# Altium integrated library Linear Technology Power Management LED Driver ICs.IntLib: 490 symbols (part 14 of 48)
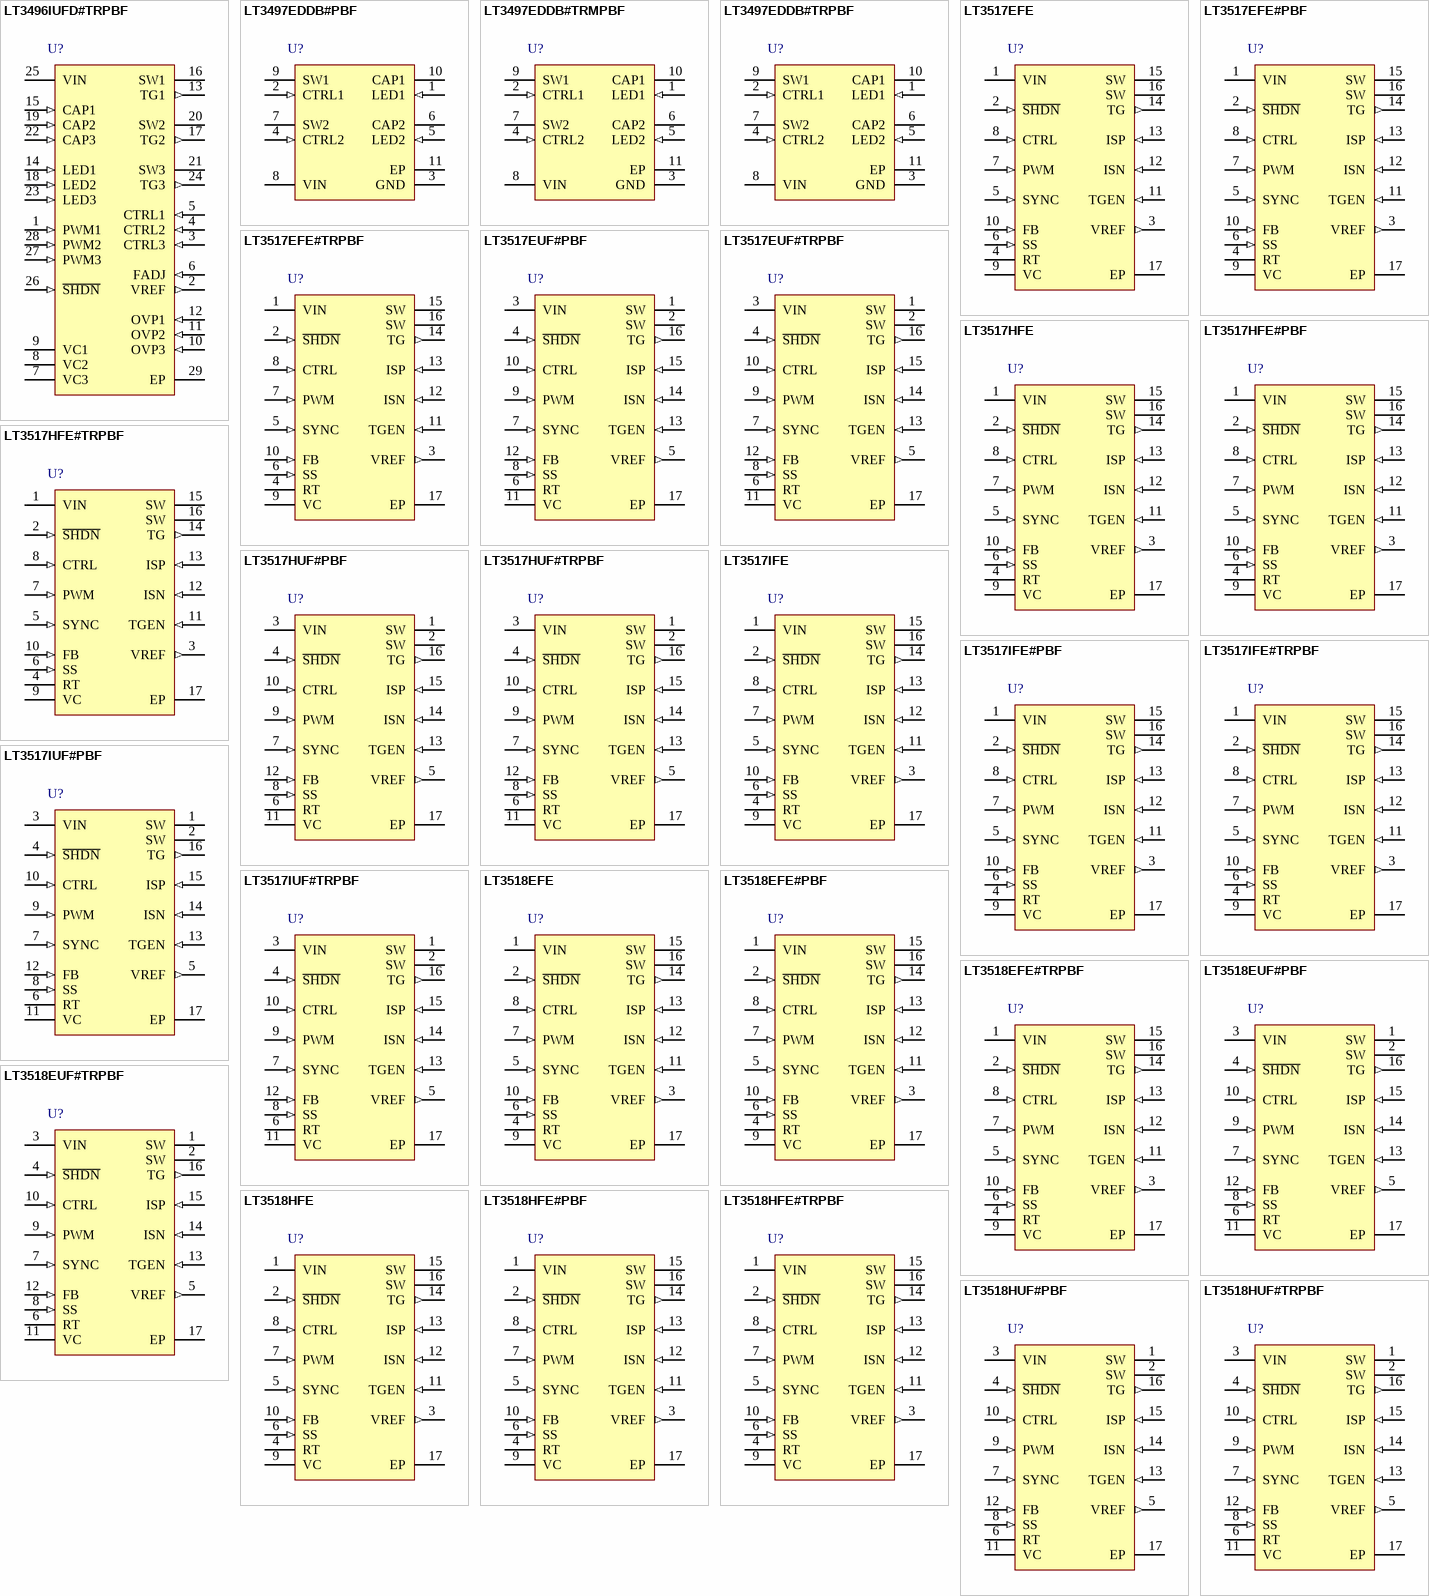
[diagram p33: symbols LT3496IUFD#TRPBF to LT3518HUF#TRPBF]

## LT3517IFE#PBF
designator U?
Full-Featured LED Driver with 1.5 A Switch Current, 3 to 30 V Vin, 40 V Vout MAX, 16-pin SOP (FE-16-EPV-BA), -40 to 125 degC, Pb-Free; Manufacturer: Linear Technology; PartNumber: LT3517IFE#PBF; Topology: Buck, Boost, Buck-Boost, LED Driver; Vin Min(V): 3; DatasheetVersion: Rev. G; PackageVersion: Rev. I, 05/2011; PackageReference: FE-16; PackageDescription: 16-Pin Plastic TSSOP, Body 5 x 4.4 mm, Pitch 0.65 mm; Supplier 1: Digi-Key; Supplier Part Number 1: LT3517IFE#PBF-ND; Supplier 2: Farnell; Supplier Part Number 2: 2294848; Supplier 3: Newark; Supplier Part Number 3: 75M4741; RoHS: TRUE; Mounting Technology: Surface Mount; ComponentLink1Description: Manufacturer URL; ComponentLink1URL: http://www.linear.com/; ComponentLink2Description: Datasheet; ComponentLink2URL: http://cds.linear.com/docs/en/datasheet/3517fg.pdf; ComponentLink3Description: Package Specification; ComponentLink3URL: http://cds.linear.com/docs/en/packaging/05081663_J_FE16(BA).pdf
footprint LT-FE-16-EPV-BA_N (SOP, 16-Leads, Body 5x4.4mm, Pitch 0.65mm, Thermal Pad 2.74x2.74mm, IPC Medium Density)
footprint LT-FE-16-EPV-BA_L (SOP, 16-Leads, Body 5x4.4mm, Pitch 0.65mm, Thermal Pad 2.74x2.74mm, IPC High Density)
footprint LT-FE-16-EPV-BA_M (SOP, 16-Leads, Body 5x4.4mm, Pitch 0.65mm, Thermal Pad 2.74x2.74mm, IPC Low Density)
pins: 1 VIN (power) "Input Supply Pin. Must be locally bypassed.", 2 ~{SHDN} (in) "Shutdown Pin. Tie to 1.5V or higher to enable device or 0.4V or less to disable device.", 3 VREF (out) "Reference Output Pin. This pin can supply up to 100uA.", 4 RT "Switching Frequency Adjustment Pin. Set switching frequency using a resistor to GND (see Typical Performance Characteristics for values). For SYNC function, choose the resistor to program a frequency 20% slower than the SYNC (See Datasheet)", 5 SYNC (in) "Frequency Synchronization Pin. Tie an external clock signal here. RT resistor should be chosen to program a switching frequency 20% slower than SYNC pulse frequency. Synchronization (power switch turn-on) occurs a fixed (See Datasheet)", 6 SS (in) "Soft-Start Pin. Place a soft-start capacitor here. Leave the pin open if not in use.", 7 PWM (in) "Pulse Width Modulated Input Pin. Signal low turns off channel, disables the main switch and makes the TG pin high. Tie the PWM pin to S\H\D\N\ pin if not used. There is an equivalent 50k resistor from PWM pin to ground (See Datasheet)", 8 CTRL (in) "LED Current Adjustment Pin. Sets voltage across sense resistor between ISP and ISN. Connect directly to VREF for full-scale threshold of 100mV, or use signal values between GND and 1V to modulate LED current. Tie the CTRL (See Datasheet)", 9 VC "gm Error Amplifier Output Pin. Stabilize the loop with an RC network or compensating C.", 10 FB (in) "Voltage Loop Feedback Pin. Works as overvoltage protection for LED drivers. If FB is higher than 1V, the main switch is turned off.", 11 TGEN (in) "Top Gate Enable Input Pin. Tie to 1.5V or higher to enable the PMOS driver function. Tie the TGEN pin to ground if TG function is not used. There is an equivalent 40k resistor from TGEN pin to ground internally.", 12 ISN (in) "Current Sense (-) Pin. The inverting input to the current sense amplifier.", 13 ISP (in) "Current Sense (+) Pin. The noninverting input to the current sense amplifier. Also serves as positive rail for TG pin driver.", 14 TG (out) "Top Gate Driver Output. An inverted PWM signal drives series PMOS device between VISP and (VISP - 7V). An internal 7V clamp protects the VISP PMOS gate. Leave TG unconnected if not used.", 15 SW (power) "Switch Pin. Minimize trace at this pin to reduce EMI.", 16 SW (power) "Switch Pin. Minimize trace at this pin to reduce EMI.", 17 EP (power) "Exposed Pad. Solder paddle directly to ground plane."

## LT3517IFE#TRPBF
designator U?
Full-Featured LED Driver with 1.5 A Switch Current, 3 to 30 V Vin, 40 V Vout MAX, 16-pin SOP (FE-16-EPV-BA), -40 to 125 degC, Pb-Free, Tape and Reel; Manufacturer: Linear Technology; PartNumber: LT3517IFE#TRPBF; Topology: Buck, Boost, Buck-Boost, LED Driver; Vin Min(V): 3; DatasheetVersion: Rev. G; PackageVersion: Rev. I, 05/2011; PackageReference: FE-16; PackageDescription: 16-Pin Plastic TSSOP, Body 5 x 4.4 mm, Pitch 0.65 mm; Supplier 1: Digi-Key; Supplier Part Number 1: LT3517IFE#TRPBF-ND; Packing: Tape and Reel; RoHS: TRUE; Mounting Technology: Surface Mount; ComponentLink1Description: Manufacturer URL; ComponentLink1URL: http://www.linear.com/; ComponentLink2Description: Datasheet; ComponentLink2URL: http://cds.linear.com/docs/en/datasheet/3517fg.pdf; ComponentLink3Description: Package Specification; ComponentLink3URL: http://cds.linear.com/docs/en/packaging/05081663_J_FE16(BA).pdf
footprint LT-FE-16-EPV-BA_N (SOP, 16-Leads, Body 5x4.4mm, Pitch 0.65mm, Thermal Pad 2.74x2.74mm, IPC Medium Density)
footprint LT-FE-16-EPV-BA_L (SOP, 16-Leads, Body 5x4.4mm, Pitch 0.65mm, Thermal Pad 2.74x2.74mm, IPC High Density)
footprint LT-FE-16-EPV-BA_M (SOP, 16-Leads, Body 5x4.4mm, Pitch 0.65mm, Thermal Pad 2.74x2.74mm, IPC Low Density)
pins: 1 VIN (power) "Input Supply Pin. Must be locally bypassed.", 2 ~{SHDN} (in) "Shutdown Pin. Tie to 1.5V or higher to enable device or 0.4V or less to disable device.", 3 VREF (out) "Reference Output Pin. This pin can supply up to 100uA.", 4 RT "Switching Frequency Adjustment Pin. Set switching frequency using a resistor to GND (see Typical Performance Characteristics for values). For SYNC function, choose the resistor to program a frequency 20% slower than the SYNC (See Datasheet)", 5 SYNC (in) "Frequency Synchronization Pin. Tie an external clock signal here. RT resistor should be chosen to program a switching frequency 20% slower than SYNC pulse frequency. Synchronization (power switch turn-on) occurs a fixed (See Datasheet)", 6 SS (in) "Soft-Start Pin. Place a soft-start capacitor here. Leave the pin open if not in use.", 7 PWM (in) "Pulse Width Modulated Input Pin. Signal low turns off channel, disables the main switch and makes the TG pin high. Tie the PWM pin to S\H\D\N\ pin if not used. There is an equivalent 50k resistor from PWM pin to ground (See Datasheet)", 8 CTRL (in) "LED Current Adjustment Pin. Sets voltage across sense resistor between ISP and ISN. Connect directly to VREF for full-scale threshold of 100mV, or use signal values between GND and 1V to modulate LED current. Tie the CTRL (See Datasheet)", 9 VC "gm Error Amplifier Output Pin. Stabilize the loop with an RC network or compensating C.", 10 FB (in) "Voltage Loop Feedback Pin. Works as overvoltage protection for LED drivers. If FB is higher than 1V, the main switch is turned off.", 11 TGEN (in) "Top Gate Enable Input Pin. Tie to 1.5V or higher to enable the PMOS driver function. Tie the TGEN pin to ground if TG function is not used. There is an equivalent 40k resistor from TGEN pin to ground internally.", 12 ISN (in) "Current Sense (-) Pin. The inverting input to the current sense amplifier.", 13 ISP (in) "Current Sense (+) Pin. The noninverting input to the current sense amplifier. Also serves as positive rail for TG pin driver.", 14 TG (out) "Top Gate Driver Output. An inverted PWM signal drives series PMOS device between VISP and (VISP - 7V). An internal 7V clamp protects the VISP PMOS gate. Leave TG unconnected if not used.", 15 SW (power) "Switch Pin. Minimize trace at this pin to reduce EMI.", 16 SW (power) "Switch Pin. Minimize trace at this pin to reduce EMI.", 17 EP (power) "Exposed Pad. Solder paddle directly to ground plane."

## LT3517IUF#PBF
designator U?
Full-Featured LED Driver with 1.5 A Switch Current, 3 to 30 V Vin, 40 V Vout MAX, 16-pin QFN (UF-16), -40 to 125 degC, Pb-Free; Manufacturer: Linear Technology; PartNumber: LT3517IUF#PBF; Topology: Buck, Boost, Buck-Boost, LED Driver; Vin Min(V): 3; DatasheetVersion: Rev. G; PackageVersion: Jun-10; PackageReference: UF-16; PackageDescription: 16-Pin Plastic QFN, Body 4 x 4 mm, Pitch 0.65 mm; Supplier 1: Digi-Key; Supplier Part Number 1: LT3517IUF#PBF-ND; Supplier 2: Newark; Supplier Part Number 2: 95M6559; RoHS: TRUE; Mounting Technology: Surface Mount; Code_JEDEC: MO-220; ComponentLink1Description: Manufacturer URL; ComponentLink1URL: http://www.linear.com/; ComponentLink2Description: Datasheet; ComponentLink2URL: http://cds.linear.com/docs/en/datasheet/3517fg.pdf; ComponentLink3Description: Package Specification; ComponentLink3URL: http://cds.linear.com/docs/en/packaging/QFN_16_05-08-1692.pdf
footprint LT-UF-16_N (QFN, 16-Leads, Body 4.1x4.1mm, Pitch 0.65mm, Thermal Pad 2.15x2.15mm, IPC Medium Density)
footprint LT-UF-16_L (QFN, 16-Leads, Body 4.1x4.1mm, Pitch 0.65mm, Thermal Pad 2.15x2.15mm, IPC High Density)
footprint LT-UF-16_M (QFN, 16-Leads, Body 4.1x4.1mm, Pitch 0.65mm, Thermal Pad 2.15x2.15mm, IPC Low Density)
pins: 1 SW (power) "Switch Pin. Minimize trace at this pin to reduce EMI.", 2 SW (power) "Switch Pin. Minimize trace at this pin to reduce EMI.", 3 VIN (power) "Input Supply Pin. Must be locally bypassed.", 4 ~{SHDN} (in) "Shutdown Pin. Tie to 1.5V or higher to enable device or 0.4V or less to disable device.", 5 VREF (out) "Reference Output Pin. This pin can supply up to 100uA.", 6 RT "Switching Frequency Adjustment Pin. Set switching frequency using a resistor to GND (see Typical Performance Characteristics for values). For SYNC function, choose the resistor to program a frequency 20% slower than the SYNC (See Datasheet)", 7 SYNC (in) "Frequency Synchronization Pin. Tie an external clock signal here. RT resistor should be chosen to program a switching frequency 20% slower than SYNC pulse frequency. Synchronization (power switch turn-on) occurs a fixed (See Datasheet)", 8 SS (in) "Soft-Start Pin. Place a soft-start capacitor here. Leave the pin open if not in use.", 9 PWM (in) "Pulse Width Modulated Input Pin. Signal low turns off channel, disables the main switch and makes the TG pin high. Tie the PWM pin to S\H\D\N\ pin if not used. There is an equivalent 50k resistor from PWM pin to ground (See Datasheet)", 10 CTRL (in) "LED Current Adjustment Pin. Sets voltage across sense resistor between ISP and ISN. Connect directly to VREF for full-scale threshold of 100mV, or use signal values between GND and 1V to modulate LED current. Tie the CTRL (See Datasheet)", 11 VC "gm Error Amplifier Output Pin. Stabilize the loop with an RC network or compensating C.", 12 FB (in) "Voltage Loop Feedback Pin. Works as overvoltage protection for LED drivers. If FB is higher than 1V, the main switch is turned off.", 13 TGEN (in) "Top Gate Enable Input Pin. Tie to 1.5V or higher to enable the PMOS driver function. Tie the TGEN pin to ground if TG function is not used. There is an equivalent 40k resistor from TGEN pin to ground internally.", 14 ISN (in) "Current Sense (-) Pin. The inverting input to the current sense amplifier.", 15 ISP (in) "Current Sense (+) Pin. The noninverting input to the current sense amplifier. Also serves as positive rail for TG pin driver.", 16 TG (out) "Top Gate Driver Output. An inverted PWM signal drives series PMOS device between VISP and (VISP - 7V). An internal 7V clamp protects the VISP PMOS gate. Leave TG unconnected if not used.", 17 EP (power) "Exposed Pad. Solder paddle directly to ground plane."

## LT3517IUF#TRPBF
designator U?
Full-Featured LED Driver with 1.5 A Switch Current, 3 to 30 V Vin, 40 V Vout MAX, 16-pin QFN (UF-16), -40 to 125 degC, Pb-Free, Tape and Reel; Manufacturer: Linear Technology; PartNumber: LT3517IUF#TRPBF; Topology: Buck, Boost, Buck-Boost, LED Driver; Vin Min(V): 3; DatasheetVersion: Rev. G; PackageVersion: Jun-10; PackageReference: UF-16; PackageDescription: 16-Pin Plastic QFN, Body 4 x 4 mm, Pitch 0.65 mm; Supplier 1: Digi-Key; Supplier Part Number 1: LT3517IUF#TRPBF-ND; Packing: Tape and Reel; RoHS: TRUE; Mounting Technology: Surface Mount; Code_JEDEC: MO-220; ComponentLink1Description: Manufacturer URL; ComponentLink1URL: http://www.linear.com/; ComponentLink2Description: Datasheet; ComponentLink2URL: http://cds.linear.com/docs/en/datasheet/3517fg.pdf; ComponentLink3Description: Package Specification; ComponentLink3URL: http://cds.linear.com/docs/en/packaging/QFN_16_05-08-1692.pdf
footprint LT-UF-16_N (QFN, 16-Leads, Body 4.1x4.1mm, Pitch 0.65mm, Thermal Pad 2.15x2.15mm, IPC Medium Density)
footprint LT-UF-16_L (QFN, 16-Leads, Body 4.1x4.1mm, Pitch 0.65mm, Thermal Pad 2.15x2.15mm, IPC High Density)
footprint LT-UF-16_M (QFN, 16-Leads, Body 4.1x4.1mm, Pitch 0.65mm, Thermal Pad 2.15x2.15mm, IPC Low Density)
pins: 1 SW (power) "Switch Pin. Minimize trace at this pin to reduce EMI.", 2 SW (power) "Switch Pin. Minimize trace at this pin to reduce EMI.", 3 VIN (power) "Input Supply Pin. Must be locally bypassed.", 4 ~{SHDN} (in) "Shutdown Pin. Tie to 1.5V or higher to enable device or 0.4V or less to disable device.", 5 VREF (out) "Reference Output Pin. This pin can supply up to 100uA.", 6 RT "Switching Frequency Adjustment Pin. Set switching frequency using a resistor to GND (see Typical Performance Characteristics for values). For SYNC function, choose the resistor to program a frequency 20% slower than the SYNC (See Datasheet)", 7 SYNC (in) "Frequency Synchronization Pin. Tie an external clock signal here. RT resistor should be chosen to program a switching frequency 20% slower than SYNC pulse frequency. Synchronization (power switch turn-on) occurs a fixed (See Datasheet)", 8 SS (in) "Soft-Start Pin. Place a soft-start capacitor here. Leave the pin open if not in use.", 9 PWM (in) "Pulse Width Modulated Input Pin. Signal low turns off channel, disables the main switch and makes the TG pin high. Tie the PWM pin to S\H\D\N\ pin if not used. There is an equivalent 50k resistor from PWM pin to ground (See Datasheet)", 10 CTRL (in) "LED Current Adjustment Pin. Sets voltage across sense resistor between ISP and ISN. Connect directly to VREF for full-scale threshold of 100mV, or use signal values between GND and 1V to modulate LED current. Tie the CTRL (See Datasheet)", 11 VC "gm Error Amplifier Output Pin. Stabilize the loop with an RC network or compensating C.", 12 FB (in) "Voltage Loop Feedback Pin. Works as overvoltage protection for LED drivers. If FB is higher than 1V, the main switch is turned off.", 13 TGEN (in) "Top Gate Enable Input Pin. Tie to 1.5V or higher to enable the PMOS driver function. Tie the TGEN pin to ground if TG function is not used. There is an equivalent 40k resistor from TGEN pin to ground internally.", 14 ISN (in) "Current Sense (-) Pin. The inverting input to the current sense amplifier.", 15 ISP (in) "Current Sense (+) Pin. The noninverting input to the current sense amplifier. Also serves as positive rail for TG pin driver.", 16 TG (out) "Top Gate Driver Output. An inverted PWM signal drives series PMOS device between VISP and (VISP - 7V). An internal 7V clamp protects the VISP PMOS gate. Leave TG unconnected if not used.", 17 EP (power) "Exposed Pad. Solder paddle directly to ground plane."

## LT3518EFE
designator U?
Full-Featured LED Driver with 2.3 A Switch Current, 3 to 40 V Vin, 45 V Vout MAX, 16-pin SOP (FE-16-EPV-BA), -40 to 125 degC; Manufacturer: Linear Technology; PartNumber: LT3518EFE; Topology: Buck, Boost, Buck-Boost, LED Driver; Vin Min(V): 3; DatasheetVersion: Rev. E; PackageVersion: Rev. I, 05/2011; PackageReference: FE-16; PackageDescription: 16-Pin Plastic TSSOP, Body 5 x 4.4 mm, Pitch 0.65 mm; RoHS: FALSE; Mounting Technology: Surface Mount; ComponentLink1Description: Manufacturer URL; ComponentLink1URL: http://www.linear.com/; ComponentLink2Description: Datasheet; ComponentLink2URL: http://cds.linear.com/docs/en/datasheet/3518fe.pdf; ComponentLink3Description: Package Specification; ComponentLink3URL: http://cds.linear.com/docs/en/packaging/05081663_J_FE16(BA).pdf
footprint LT-FE-16-EPV-BA_N (SOP, 16-Leads, Body 5x4.4mm, Pitch 0.65mm, Thermal Pad 2.74x2.74mm, IPC Medium Density)
footprint LT-FE-16-EPV-BA_L (SOP, 16-Leads, Body 5x4.4mm, Pitch 0.65mm, Thermal Pad 2.74x2.74mm, IPC High Density)
footprint LT-FE-16-EPV-BA_M (SOP, 16-Leads, Body 5x4.4mm, Pitch 0.65mm, Thermal Pad 2.74x2.74mm, IPC Low Density)
pins: 1 VIN (power) "Input Supply Pin. Must be locally bypassed.", 2 ~{SHDN} (in) "Shutdown Pin. Tie to 1.5V or higher to enable device or 0.4V or less to disable device.", 3 VREF (out) "Reference Output Pin. This pin can supply up to 100uA.", 4 RT "Switching Frequency Adjustment Pin. Set switching frequency using a resistor to GND (see Typical Performance Characteristics for values). For SYNC function, choose the resistor to program a frequency 20% slower than the SYNC (See Datasheet)", 5 SYNC (in) "Frequency Synchronization Pin. Tie an external clock signal here. RT resistor should be chosen to program a switching frequency 20% slower than SYNC pulse frequency. Synchronization (power switch turn-on) occurs a fixed (See Datasheet)", 6 SS (in) "Soft-Start Pin. Place a soft-start capacitor here. Leave the pin open if not in use.", 7 PWM (in) "Pulse Width Modulated Input Pin. Signal low turns off channel, disables the main switch and makes the TG pin high. Tie the PWM pin to S\H\D\N\ pin if not used. There is an equivalent 50k resistor from PWM pin to ground (See Datasheet)", 8 CTRL (in) "LED Current Adjustment Pin. Sets voltage across sense resistor between ISP and ISN. Connect directly to VREF for full-scale threshold of 100mV, or use signal values between GND and 1V to modulate LED current. Tie the CTRL (See Datasheet)", 9 VC "gm Error Amplifier Output Pin. Stabilize the loop with an RC network or compensating C.", 10 FB (in) "Voltage Loop Feedback Pin. Works as overvoltage protection for LED drivers. If FB is higher than 1V, the main switch is turned off.", 11 TGEN (in) "Top Gate Enable Input Pin. Tie to 1.5V or higher to enable the PMOS driver function. Tie the TGEN pin to ground if TG function is not used. There is an equivalent 40k resistor from TGEN pin to ground internally.", 12 ISN (in) "Current Sense (-) Pin. The inverting input to the current sense amplifier.", 13 ISP (in) "Current Sense (+) Pin. The noninverting input to the current sense amplifier. Also serves as positive rail for TG pin driver.", 14 TG (out) "Top Gate Driver Output. An inverted PWM signal drives series PMOS device between VISP and (VISP - 7V). An internal 7V clamp protects the VISP PMOS gate. Leave TG unconnected if not used.", 15 SW (power) "Switch Pin. Minimize trace at this pin to reduce EMI.", 16 SW (power) "Switch Pin. Minimize trace at this pin to reduce EMI.", 17 EP (power) "Exposed Pad. Solder paddle directly to ground plane."

## LT3518EFE#PBF
designator U?
Full-Featured LED Driver with 2.3 A Switch Current, 3 to 40 V Vin, 45 V Vout MAX, 16-pin SOP (FE-16-EPV-BA), -40 to 125 degC, Pb-Free; Manufacturer: Linear Technology; PartNumber: LT3518EFE#PBF; Topology: Buck, Boost, Buck-Boost, LED Driver; Vin Min(V): 3; DatasheetVersion: Rev. E; PackageVersion: Rev. I, 05/2011; PackageReference: FE-16; PackageDescription: 16-Pin Plastic TSSOP, Body 5 x 4.4 mm, Pitch 0.65 mm; Supplier 1: Digi-Key; Supplier Part Number 1: LT3518EFE#PBF-ND; Supplier 2: Farnell; Supplier Part Number 2: 1647748; Supplier 3: Newark; Supplier Part Number 3: 75M4744; RoHS: TRUE; Mounting Technology: Surface Mount; ComponentLink1Description: Manufacturer URL; ComponentLink1URL: http://www.linear.com/; ComponentLink2Description: Datasheet; ComponentLink2URL: http://cds.linear.com/docs/en/datasheet/3518fe.pdf; ComponentLink3Description: Package Specification; ComponentLink3URL: http://cds.linear.com/docs/en/packaging/05081663_J_FE16(BA).pdf
footprint LT-FE-16-EPV-BA_N (SOP, 16-Leads, Body 5x4.4mm, Pitch 0.65mm, Thermal Pad 2.74x2.74mm, IPC Medium Density)
footprint LT-FE-16-EPV-BA_L (SOP, 16-Leads, Body 5x4.4mm, Pitch 0.65mm, Thermal Pad 2.74x2.74mm, IPC High Density)
footprint LT-FE-16-EPV-BA_M (SOP, 16-Leads, Body 5x4.4mm, Pitch 0.65mm, Thermal Pad 2.74x2.74mm, IPC Low Density)
pins: 1 VIN (power) "Input Supply Pin. Must be locally bypassed.", 2 ~{SHDN} (in) "Shutdown Pin. Tie to 1.5V or higher to enable device or 0.4V or less to disable device.", 3 VREF (out) "Reference Output Pin. This pin can supply up to 100uA.", 4 RT "Switching Frequency Adjustment Pin. Set switching frequency using a resistor to GND (see Typical Performance Characteristics for values). For SYNC function, choose the resistor to program a frequency 20% slower than the SYNC (See Datasheet)", 5 SYNC (in) "Frequency Synchronization Pin. Tie an external clock signal here. RT resistor should be chosen to program a switching frequency 20% slower than SYNC pulse frequency. Synchronization (power switch turn-on) occurs a fixed (See Datasheet)", 6 SS (in) "Soft-Start Pin. Place a soft-start capacitor here. Leave the pin open if not in use.", 7 PWM (in) "Pulse Width Modulated Input Pin. Signal low turns off channel, disables the main switch and makes the TG pin high. Tie the PWM pin to S\H\D\N\ pin if not used. There is an equivalent 50k resistor from PWM pin to ground (See Datasheet)", 8 CTRL (in) "LED Current Adjustment Pin. Sets voltage across sense resistor between ISP and ISN. Connect directly to VREF for full-scale threshold of 100mV, or use signal values between GND and 1V to modulate LED current. Tie the CTRL (See Datasheet)", 9 VC "gm Error Amplifier Output Pin. Stabilize the loop with an RC network or compensating C.", 10 FB (in) "Voltage Loop Feedback Pin. Works as overvoltage protection for LED drivers. If FB is higher than 1V, the main switch is turned off.", 11 TGEN (in) "Top Gate Enable Input Pin. Tie to 1.5V or higher to enable the PMOS driver function. Tie the TGEN pin to ground if TG function is not used. There is an equivalent 40k resistor from TGEN pin to ground internally.", 12 ISN (in) "Current Sense (-) Pin. The inverting input to the current sense amplifier.", 13 ISP (in) "Current Sense (+) Pin. The noninverting input to the current sense amplifier. Also serves as positive rail for TG pin driver.", 14 TG (out) "Top Gate Driver Output. An inverted PWM signal drives series PMOS device between VISP and (VISP - 7V). An internal 7V clamp protects the VISP PMOS gate. Leave TG unconnected if not used.", 15 SW (power) "Switch Pin. Minimize trace at this pin to reduce EMI.", 16 SW (power) "Switch Pin. Minimize trace at this pin to reduce EMI.", 17 EP (power) "Exposed Pad. Solder paddle directly to ground plane."

## LT3518EFE#TRPBF
designator U?
Full-Featured LED Driver with 2.3 A Switch Current, 3 to 40 V Vin, 45 V Vout MAX, 16-pin SOP (FE-16-EPV-BA), -40 to 125 degC, Pb-Free, Tape and Reel; Manufacturer: Linear Technology; PartNumber: LT3518EFE#TRPBF; Topology: Buck, Boost, Buck-Boost, LED Driver; Vin Min(V): 3; DatasheetVersion: Rev. E; PackageVersion: Rev. I, 05/2011; PackageReference: FE-16; PackageDescription: 16-Pin Plastic TSSOP, Body 5 x 4.4 mm, Pitch 0.65 mm; Supplier 1: Digi-Key; Supplier Part Number 1: LT3518EFE#TRPBF-ND; Packing: Tape and Reel; RoHS: TRUE; Mounting Technology: Surface Mount; ComponentLink1Description: Manufacturer URL; ComponentLink1URL: http://www.linear.com/; ComponentLink2Description: Datasheet; ComponentLink2URL: http://cds.linear.com/docs/en/datasheet/3518fe.pdf; ComponentLink3Description: Package Specification; ComponentLink3URL: http://cds.linear.com/docs/en/packaging/05081663_J_FE16(BA).pdf
footprint LT-FE-16-EPV-BA_N (SOP, 16-Leads, Body 5x4.4mm, Pitch 0.65mm, Thermal Pad 2.74x2.74mm, IPC Medium Density)
footprint LT-FE-16-EPV-BA_L (SOP, 16-Leads, Body 5x4.4mm, Pitch 0.65mm, Thermal Pad 2.74x2.74mm, IPC High Density)
footprint LT-FE-16-EPV-BA_M (SOP, 16-Leads, Body 5x4.4mm, Pitch 0.65mm, Thermal Pad 2.74x2.74mm, IPC Low Density)
pins: 1 VIN (power) "Input Supply Pin. Must be locally bypassed.", 2 ~{SHDN} (in) "Shutdown Pin. Tie to 1.5V or higher to enable device or 0.4V or less to disable device.", 3 VREF (out) "Reference Output Pin. This pin can supply up to 100uA.", 4 RT "Switching Frequency Adjustment Pin. Set switching frequency using a resistor to GND (see Typical Performance Characteristics for values). For SYNC function, choose the resistor to program a frequency 20% slower than the SYNC (See Datasheet)", 5 SYNC (in) "Frequency Synchronization Pin. Tie an external clock signal here. RT resistor should be chosen to program a switching frequency 20% slower than SYNC pulse frequency. Synchronization (power switch turn-on) occurs a fixed (See Datasheet)", 6 SS (in) "Soft-Start Pin. Place a soft-start capacitor here. Leave the pin open if not in use.", 7 PWM (in) "Pulse Width Modulated Input Pin. Signal low turns off channel, disables the main switch and makes the TG pin high. Tie the PWM pin to S\H\D\N\ pin if not used. There is an equivalent 50k resistor from PWM pin to ground (See Datasheet)", 8 CTRL (in) "LED Current Adjustment Pin. Sets voltage across sense resistor between ISP and ISN. Connect directly to VREF for full-scale threshold of 100mV, or use signal values between GND and 1V to modulate LED current. Tie the CTRL (See Datasheet)", 9 VC "gm Error Amplifier Output Pin. Stabilize the loop with an RC network or compensating C.", 10 FB (in) "Voltage Loop Feedback Pin. Works as overvoltage protection for LED drivers. If FB is higher than 1V, the main switch is turned off.", 11 TGEN (in) "Top Gate Enable Input Pin. Tie to 1.5V or higher to enable the PMOS driver function. Tie the TGEN pin to ground if TG function is not used. There is an equivalent 40k resistor from TGEN pin to ground internally.", 12 ISN (in) "Current Sense (-) Pin. The inverting input to the current sense amplifier.", 13 ISP (in) "Current Sense (+) Pin. The noninverting input to the current sense amplifier. Also serves as positive rail for TG pin driver.", 14 TG (out) "Top Gate Driver Output. An inverted PWM signal drives series PMOS device between VISP and (VISP - 7V). An internal 7V clamp protects the VISP PMOS gate. Leave TG unconnected if not used.", 15 SW (power) "Switch Pin. Minimize trace at this pin to reduce EMI.", 16 SW (power) "Switch Pin. Minimize trace at this pin to reduce EMI.", 17 EP (power) "Exposed Pad. Solder paddle directly to ground plane."

## LT3518EUF#PBF
designator U?
Full-Featured LED Driver with 2.3 A Switch Current, 3 to 40 V Vin, 45 V Vout MAX, 16-pin QFN (UF-16), -40 to 125 degC, Pb-Free; Manufacturer: Linear Technology; PartNumber: LT3518EUF#PBF; Topology: Buck, Boost, Buck-Boost, LED Driver; Vin Min(V): 3; DatasheetVersion: Rev. E; PackageVersion: Jun-10; PackageReference: UF-16; PackageDescription: 16-Pin Plastic QFN, Body 4 x 4 mm, Pitch 0.65 mm; Supplier 1: Digi-Key; Supplier Part Number 1: LT3518EUF#PBF-ND; Supplier 2: Farnell; Supplier Part Number 2: 1432694; Supplier 3: Newark; Supplier Part Number 3: 57M8511; RoHS: TRUE; Mounting Technology: Surface Mount; Code_JEDEC: MO-220; ComponentLink1Description: Manufacturer URL; ComponentLink1URL: http://www.linear.com/; ComponentLink2Description: Datasheet; ComponentLink2URL: http://cds.linear.com/docs/en/datasheet/3518fe.pdf; ComponentLink3Description: Package Specification; ComponentLink3URL: http://cds.linear.com/docs/en/packaging/QFN_16_05-08-1692.pdf
footprint LT-UF-16_N (QFN, 16-Leads, Body 4.1x4.1mm, Pitch 0.65mm, Thermal Pad 2.15x2.15mm, IPC Medium Density)
footprint LT-UF-16_L (QFN, 16-Leads, Body 4.1x4.1mm, Pitch 0.65mm, Thermal Pad 2.15x2.15mm, IPC High Density)
footprint LT-UF-16_M (QFN, 16-Leads, Body 4.1x4.1mm, Pitch 0.65mm, Thermal Pad 2.15x2.15mm, IPC Low Density)
pins: 1 SW (power) "Switch Pin. Minimize trace at this pin to reduce EMI.", 2 SW (power) "Switch Pin. Minimize trace at this pin to reduce EMI.", 3 VIN (power) "Input Supply Pin. Must be locally bypassed.", 4 ~{SHDN} (in) "Shutdown Pin. Tie to 1.5V or higher to enable device or 0.4V or less to disable device.", 5 VREF (out) "Reference Output Pin. This pin can supply up to 100uA.", 6 RT "Switching Frequency Adjustment Pin. Set switching frequency using a resistor to GND (see Typical Performance Characteristics for values). For SYNC function, choose the resistor to program a frequency 20% slower than the SYNC (See Datasheet)", 7 SYNC (in) "Frequency Synchronization Pin. Tie an external clock signal here. RT resistor should be chosen to program a switching frequency 20% slower than SYNC pulse frequency. Synchronization (power switch turn-on) occurs a fixed (See Datasheet)", 8 SS (in) "Soft-Start Pin. Place a soft-start capacitor here. Leave the pin open if not in use.", 9 PWM (in) "Pulse Width Modulated Input Pin. Signal low turns off channel, disables the main switch and makes the TG pin high. Tie the PWM pin to S\H\D\N\ pin if not used. There is an equivalent 50k resistor from PWM pin to ground (See Datasheet)", 10 CTRL (in) "LED Current Adjustment Pin. Sets voltage across sense resistor between ISP and ISN. Connect directly to VREF for full-scale threshold of 100mV, or use signal values between GND and 1V to modulate LED current. Tie the CTRL (See Datasheet)", 11 VC "gm Error Amplifier Output Pin. Stabilize the loop with an RC network or compensating C.", 12 FB (in) "Voltage Loop Feedback Pin. Works as overvoltage protection for LED drivers. If FB is higher than 1V, the main switch is turned off.", 13 TGEN (in) "Top Gate Enable Input Pin. Tie to 1.5V or higher to enable the PMOS driver function. Tie the TGEN pin to ground if TG function is not used. There is an equivalent 40k resistor from TGEN pin to ground internally.", 14 ISN (in) "Current Sense (-) Pin. The inverting input to the current sense amplifier.", 15 ISP (in) "Current Sense (+) Pin. The noninverting input to the current sense amplifier. Also serves as positive rail for TG pin driver.", 16 TG (out) "Top Gate Driver Output. An inverted PWM signal drives series PMOS device between VISP and (VISP - 7V). An internal 7V clamp protects the VISP PMOS gate. Leave TG unconnected if not used.", 17 EP (power) "Exposed Pad. Solder paddle directly to ground plane."

## LT3518EUF#TRPBF
designator U?
Full-Featured LED Driver with 2.3 A Switch Current, 3 to 40 V Vin, 45 V Vout MAX, 16-pin QFN (UF-16), -40 to 125 degC, Pb-Free, Tape and Reel; Manufacturer: Linear Technology; PartNumber: LT3518EUF#TRPBF; Topology: Buck, Boost, Buck-Boost, LED Driver; Vin Min(V): 3; DatasheetVersion: Rev. E; PackageVersion: Jun-10; PackageReference: UF-16; PackageDescription: 16-Pin Plastic QFN, Body 4 x 4 mm, Pitch 0.65 mm; Supplier 1: Digi-Key; Supplier Part Number 1: LT3518EUF#TRPBF-ND; Packing: Tape and Reel; RoHS: TRUE; Mounting Technology: Surface Mount; Code_JEDEC: MO-220; ComponentLink1Description: Manufacturer URL; ComponentLink1URL: http://www.linear.com/; ComponentLink2Description: Datasheet; ComponentLink2URL: http://cds.linear.com/docs/en/datasheet/3518fe.pdf; ComponentLink3Description: Package Specification; ComponentLink3URL: http://cds.linear.com/docs/en/packaging/QFN_16_05-08-1692.pdf
footprint LT-UF-16_N (QFN, 16-Leads, Body 4.1x4.1mm, Pitch 0.65mm, Thermal Pad 2.15x2.15mm, IPC Medium Density)
footprint LT-UF-16_L (QFN, 16-Leads, Body 4.1x4.1mm, Pitch 0.65mm, Thermal Pad 2.15x2.15mm, IPC High Density)
footprint LT-UF-16_M (QFN, 16-Leads, Body 4.1x4.1mm, Pitch 0.65mm, Thermal Pad 2.15x2.15mm, IPC Low Density)
pins: 1 SW (power) "Switch Pin. Minimize trace at this pin to reduce EMI.", 2 SW (power) "Switch Pin. Minimize trace at this pin to reduce EMI.", 3 VIN (power) "Input Supply Pin. Must be locally bypassed.", 4 ~{SHDN} (in) "Shutdown Pin. Tie to 1.5V or higher to enable device or 0.4V or less to disable device.", 5 VREF (out) "Reference Output Pin. This pin can supply up to 100uA.", 6 RT "Switching Frequency Adjustment Pin. Set switching frequency using a resistor to GND (see Typical Performance Characteristics for values). For SYNC function, choose the resistor to program a frequency 20% slower than the SYNC (See Datasheet)", 7 SYNC (in) "Frequency Synchronization Pin. Tie an external clock signal here. RT resistor should be chosen to program a switching frequency 20% slower than SYNC pulse frequency. Synchronization (power switch turn-on) occurs a fixed (See Datasheet)", 8 SS (in) "Soft-Start Pin. Place a soft-start capacitor here. Leave the pin open if not in use.", 9 PWM (in) "Pulse Width Modulated Input Pin. Signal low turns off channel, disables the main switch and makes the TG pin high. Tie the PWM pin to S\H\D\N\ pin if not used. There is an equivalent 50k resistor from PWM pin to ground (See Datasheet)", 10 CTRL (in) "LED Current Adjustment Pin. Sets voltage across sense resistor between ISP and ISN. Connect directly to VREF for full-scale threshold of 100mV, or use signal values between GND and 1V to modulate LED current. Tie the CTRL (See Datasheet)", 11 VC "gm Error Amplifier Output Pin. Stabilize the loop with an RC network or compensating C.", 12 FB (in) "Voltage Loop Feedback Pin. Works as overvoltage protection for LED drivers. If FB is higher than 1V, the main switch is turned off.", 13 TGEN (in) "Top Gate Enable Input Pin. Tie to 1.5V or higher to enable the PMOS driver function. Tie the TGEN pin to ground if TG function is not used. There is an equivalent 40k resistor from TGEN pin to ground internally.", 14 ISN (in) "Current Sense (-) Pin. The inverting input to the current sense amplifier.", 15 ISP (in) "Current Sense (+) Pin. The noninverting input to the current sense amplifier. Also serves as positive rail for TG pin driver.", 16 TG (out) "Top Gate Driver Output. An inverted PWM signal drives series PMOS device between VISP and (VISP - 7V). An internal 7V clamp protects the VISP PMOS gate. Leave TG unconnected if not used.", 17 EP (power) "Exposed Pad. Solder paddle directly to ground plane."

## LT3518HFE
designator U?
Full-Featured LED Driver with 2.3 A Switch Current, 3 to 40 V Vin, 45 V Vout MAX, 16-pin SOP (FE-16-EPV-BA), -40 to 150 degC; Manufacturer: Linear Technology; PartNumber: LT3518HFE; Topology: Buck, Boost, Buck-Boost, LED Driver; Vin Min(V): 3; DatasheetVersion: Rev. E; PackageVersion: Rev. I, 05/2011; PackageReference: FE-16; PackageDescription: 16-Pin Plastic TSSOP, Body 5 x 4.4 mm, Pitch 0.65 mm; RoHS: FALSE; Mounting Technology: Surface Mount; ComponentLink1Description: Manufacturer URL; ComponentLink1URL: http://www.linear.com/; ComponentLink2Description: Datasheet; ComponentLink2URL: http://cds.linear.com/docs/en/datasheet/3518fe.pdf; ComponentLink3Description: Package Specification; ComponentLink3URL: http://cds.linear.com/docs/en/packaging/05081663_J_FE16(BA).pdf
footprint LT-FE-16-EPV-BA_N (SOP, 16-Leads, Body 5x4.4mm, Pitch 0.65mm, Thermal Pad 2.74x2.74mm, IPC Medium Density)
footprint LT-FE-16-EPV-BA_L (SOP, 16-Leads, Body 5x4.4mm, Pitch 0.65mm, Thermal Pad 2.74x2.74mm, IPC High Density)
footprint LT-FE-16-EPV-BA_M (SOP, 16-Leads, Body 5x4.4mm, Pitch 0.65mm, Thermal Pad 2.74x2.74mm, IPC Low Density)
pins: 1 VIN (power) "Input Supply Pin. Must be locally bypassed.", 2 ~{SHDN} (in) "Shutdown Pin. Tie to 1.5V or higher to enable device or 0.4V or less to disable device.", 3 VREF (out) "Reference Output Pin. This pin can supply up to 100uA.", 4 RT "Switching Frequency Adjustment Pin. Set switching frequency using a resistor to GND (see Typical Performance Characteristics for values). For SYNC function, choose the resistor to program a frequency 20% slower than the SYNC (See Datasheet)", 5 SYNC (in) "Frequency Synchronization Pin. Tie an external clock signal here. RT resistor should be chosen to program a switching frequency 20% slower than SYNC pulse frequency. Synchronization (power switch turn-on) occurs a fixed (See Datasheet)", 6 SS (in) "Soft-Start Pin. Place a soft-start capacitor here. Leave the pin open if not in use.", 7 PWM (in) "Pulse Width Modulated Input Pin. Signal low turns off channel, disables the main switch and makes the TG pin high. Tie the PWM pin to S\H\D\N\ pin if not used. There is an equivalent 50k resistor from PWM pin to ground (See Datasheet)", 8 CTRL (in) "LED Current Adjustment Pin. Sets voltage across sense resistor between ISP and ISN. Connect directly to VREF for full-scale threshold of 100mV, or use signal values between GND and 1V to modulate LED current. Tie the CTRL (See Datasheet)", 9 VC "gm Error Amplifier Output Pin. Stabilize the loop with an RC network or compensating C.", 10 FB (in) "Voltage Loop Feedback Pin. Works as overvoltage protection for LED drivers. If FB is higher than 1V, the main switch is turned off.", 11 TGEN (in) "Top Gate Enable Input Pin. Tie to 1.5V or higher to enable the PMOS driver function. Tie the TGEN pin to ground if TG function is not used. There is an equivalent 40k resistor from TGEN pin to ground internally.", 12 ISN (in) "Current Sense (-) Pin. The inverting input to the current sense amplifier.", 13 ISP (in) "Current Sense (+) Pin. The noninverting input to the current sense amplifier. Also serves as positive rail for TG pin driver.", 14 TG (out) "Top Gate Driver Output. An inverted PWM signal drives series PMOS device between VISP and (VISP - 7V). An internal 7V clamp protects the VISP PMOS gate. Leave TG unconnected if not used.", 15 SW (power) "Switch Pin. Minimize trace at this pin to reduce EMI.", 16 SW (power) "Switch Pin. Minimize trace at this pin to reduce EMI.", 17 EP (power) "Exposed Pad. Solder paddle directly to ground plane."

## LT3518HFE#PBF
designator U?
Full-Featured LED Driver with 2.3 A Switch Current, 3 to 40 V Vin, 45 V Vout MAX, 16-pin SOP (FE-16-EPV-BA), -40 to 150 degC, Pb-Free; Manufacturer: Linear Technology; PartNumber: LT3518HFE#PBF; Topology: Buck, Boost, Buck-Boost, LED Driver; Vin Min(V): 3; DatasheetVersion: Rev. E; PackageVersion: Rev. I, 05/2011; PackageReference: FE-16; PackageDescription: 16-Pin Plastic TSSOP, Body 5 x 4.4 mm, Pitch 0.65 mm; Supplier 1: Digi-Key; Supplier Part Number 1: LT3518HFE#PBF-ND; RoHS: TRUE; Mounting Technology: Surface Mount; ComponentLink1Description: Manufacturer URL; ComponentLink1URL: http://www.linear.com/; ComponentLink2Description: Datasheet; ComponentLink2URL: http://cds.linear.com/docs/en/datasheet/3518fe.pdf; ComponentLink3Description: Package Specification; ComponentLink3URL: http://cds.linear.com/docs/en/packaging/05081663_J_FE16(BA).pdf
footprint LT-FE-16-EPV-BA_N (SOP, 16-Leads, Body 5x4.4mm, Pitch 0.65mm, Thermal Pad 2.74x2.74mm, IPC Medium Density)
footprint LT-FE-16-EPV-BA_L (SOP, 16-Leads, Body 5x4.4mm, Pitch 0.65mm, Thermal Pad 2.74x2.74mm, IPC High Density)
footprint LT-FE-16-EPV-BA_M (SOP, 16-Leads, Body 5x4.4mm, Pitch 0.65mm, Thermal Pad 2.74x2.74mm, IPC Low Density)
pins: 1 VIN (power) "Input Supply Pin. Must be locally bypassed.", 2 ~{SHDN} (in) "Shutdown Pin. Tie to 1.5V or higher to enable device or 0.4V or less to disable device.", 3 VREF (out) "Reference Output Pin. This pin can supply up to 100uA.", 4 RT "Switching Frequency Adjustment Pin. Set switching frequency using a resistor to GND (see Typical Performance Characteristics for values). For SYNC function, choose the resistor to program a frequency 20% slower than the SYNC (See Datasheet)", 5 SYNC (in) "Frequency Synchronization Pin. Tie an external clock signal here. RT resistor should be chosen to program a switching frequency 20% slower than SYNC pulse frequency. Synchronization (power switch turn-on) occurs a fixed (See Datasheet)", 6 SS (in) "Soft-Start Pin. Place a soft-start capacitor here. Leave the pin open if not in use.", 7 PWM (in) "Pulse Width Modulated Input Pin. Signal low turns off channel, disables the main switch and makes the TG pin high. Tie the PWM pin to S\H\D\N\ pin if not used. There is an equivalent 50k resistor from PWM pin to ground (See Datasheet)", 8 CTRL (in) "LED Current Adjustment Pin. Sets voltage across sense resistor between ISP and ISN. Connect directly to VREF for full-scale threshold of 100mV, or use signal values between GND and 1V to modulate LED current. Tie the CTRL (See Datasheet)", 9 VC "gm Error Amplifier Output Pin. Stabilize the loop with an RC network or compensating C.", 10 FB (in) "Voltage Loop Feedback Pin. Works as overvoltage protection for LED drivers. If FB is higher than 1V, the main switch is turned off.", 11 TGEN (in) "Top Gate Enable Input Pin. Tie to 1.5V or higher to enable the PMOS driver function. Tie the TGEN pin to ground if TG function is not used. There is an equivalent 40k resistor from TGEN pin to ground internally.", 12 ISN (in) "Current Sense (-) Pin. The inverting input to the current sense amplifier.", 13 ISP (in) "Current Sense (+) Pin. The noninverting input to the current sense amplifier. Also serves as positive rail for TG pin driver.", 14 TG (out) "Top Gate Driver Output. An inverted PWM signal drives series PMOS device between VISP and (VISP - 7V). An internal 7V clamp protects the VISP PMOS gate. Leave TG unconnected if not used.", 15 SW (power) "Switch Pin. Minimize trace at this pin to reduce EMI.", 16 SW (power) "Switch Pin. Minimize trace at this pin to reduce EMI.", 17 EP (power) "Exposed Pad. Solder paddle directly to ground plane."

## LT3518HFE#TRPBF
designator U?
Full-Featured LED Driver with 2.3 A Switch Current, 3 to 40 V Vin, 45 V Vout MAX, 16-pin SOP (FE-16-EPV-BA), -40 to 150 degC, Pb-Free, Tape and Reel; Manufacturer: Linear Technology; PartNumber: LT3518HFE#TRPBF; Topology: Buck, Boost, Buck-Boost, LED Driver; Vin Min(V): 3; DatasheetVersion: Rev. E; PackageVersion: Rev. I, 05/2011; PackageReference: FE-16; PackageDescription: 16-Pin Plastic TSSOP, Body 5 x 4.4 mm, Pitch 0.65 mm; Supplier 1: Digi-Key; Supplier Part Number 1: LT3518HFE#TRPBF-ND; Packing: Tape and Reel; RoHS: TRUE; Mounting Technology: Surface Mount; ComponentLink1Description: Manufacturer URL; ComponentLink1URL: http://www.linear.com/; ComponentLink2Description: Datasheet; ComponentLink2URL: http://cds.linear.com/docs/en/datasheet/3518fe.pdf; ComponentLink3Description: Package Specification; ComponentLink3URL: http://cds.linear.com/docs/en/packaging/05081663_J_FE16(BA).pdf
footprint LT-FE-16-EPV-BA_N (SOP, 16-Leads, Body 5x4.4mm, Pitch 0.65mm, Thermal Pad 2.74x2.74mm, IPC Medium Density)
footprint LT-FE-16-EPV-BA_L (SOP, 16-Leads, Body 5x4.4mm, Pitch 0.65mm, Thermal Pad 2.74x2.74mm, IPC High Density)
footprint LT-FE-16-EPV-BA_M (SOP, 16-Leads, Body 5x4.4mm, Pitch 0.65mm, Thermal Pad 2.74x2.74mm, IPC Low Density)
pins: 1 VIN (power) "Input Supply Pin. Must be locally bypassed.", 2 ~{SHDN} (in) "Shutdown Pin. Tie to 1.5V or higher to enable device or 0.4V or less to disable device.", 3 VREF (out) "Reference Output Pin. This pin can supply up to 100uA.", 4 RT "Switching Frequency Adjustment Pin. Set switching frequency using a resistor to GND (see Typical Performance Characteristics for values). For SYNC function, choose the resistor to program a frequency 20% slower than the SYNC (See Datasheet)", 5 SYNC (in) "Frequency Synchronization Pin. Tie an external clock signal here. RT resistor should be chosen to program a switching frequency 20% slower than SYNC pulse frequency. Synchronization (power switch turn-on) occurs a fixed (See Datasheet)", 6 SS (in) "Soft-Start Pin. Place a soft-start capacitor here. Leave the pin open if not in use.", 7 PWM (in) "Pulse Width Modulated Input Pin. Signal low turns off channel, disables the main switch and makes the TG pin high. Tie the PWM pin to S\H\D\N\ pin if not used. There is an equivalent 50k resistor from PWM pin to ground (See Datasheet)", 8 CTRL (in) "LED Current Adjustment Pin. Sets voltage across sense resistor between ISP and ISN. Connect directly to VREF for full-scale threshold of 100mV, or use signal values between GND and 1V to modulate LED current. Tie the CTRL (See Datasheet)", 9 VC "gm Error Amplifier Output Pin. Stabilize the loop with an RC network or compensating C.", 10 FB (in) "Voltage Loop Feedback Pin. Works as overvoltage protection for LED drivers. If FB is higher than 1V, the main switch is turned off.", 11 TGEN (in) "Top Gate Enable Input Pin. Tie to 1.5V or higher to enable the PMOS driver function. Tie the TGEN pin to ground if TG function is not used. There is an equivalent 40k resistor from TGEN pin to ground internally.", 12 ISN (in) "Current Sense (-) Pin. The inverting input to the current sense amplifier.", 13 ISP (in) "Current Sense (+) Pin. The noninverting input to the current sense amplifier. Also serves as positive rail for TG pin driver.", 14 TG (out) "Top Gate Driver Output. An inverted PWM signal drives series PMOS device between VISP and (VISP - 7V). An internal 7V clamp protects the VISP PMOS gate. Leave TG unconnected if not used.", 15 SW (power) "Switch Pin. Minimize trace at this pin to reduce EMI.", 16 SW (power) "Switch Pin. Minimize trace at this pin to reduce EMI.", 17 EP (power) "Exposed Pad. Solder paddle directly to ground plane."

## LT3518HUF#PBF
designator U?
Full-Featured LED Driver with 2.3 A Switch Current, 3 to 40 V Vin, 45 V Vout MAX, 16-pin QFN (UF-16), -40 to 150 degC, Pb-Free; Manufacturer: Linear Technology; PartNumber: LT3518HUF#PBF; Topology: Buck, Boost, Buck-Boost, LED Driver; Vin Min(V): 3; DatasheetVersion: Rev. E; PackageVersion: Jun-10; PackageReference: UF-16; PackageDescription: 16-Pin Plastic QFN, Body 4 x 4 mm, Pitch 0.65 mm; Supplier 1: Digi-Key; Supplier Part Number 1: LT3518HUF#PBF-ND; Supplier 2: Farnell; Supplier Part Number 2: 2215127; Supplier 3: Newark; Supplier Part Number 3: 27W9527; RoHS: TRUE; Mounting Technology: Surface Mount; Code_JEDEC: MO-220; ComponentLink1Description: Manufacturer URL; ComponentLink1URL: http://www.linear.com/; ComponentLink2Description: Datasheet; ComponentLink2URL: http://cds.linear.com/docs/en/datasheet/3518fe.pdf; ComponentLink3Description: Package Specification; ComponentLink3URL: http://cds.linear.com/docs/en/packaging/QFN_16_05-08-1692.pdf
footprint LT-UF-16_N (QFN, 16-Leads, Body 4.1x4.1mm, Pitch 0.65mm, Thermal Pad 2.15x2.15mm, IPC Medium Density)
footprint LT-UF-16_L (QFN, 16-Leads, Body 4.1x4.1mm, Pitch 0.65mm, Thermal Pad 2.15x2.15mm, IPC High Density)
footprint LT-UF-16_M (QFN, 16-Leads, Body 4.1x4.1mm, Pitch 0.65mm, Thermal Pad 2.15x2.15mm, IPC Low Density)
pins: 1 SW (power) "Switch Pin. Minimize trace at this pin to reduce EMI.", 2 SW (power) "Switch Pin. Minimize trace at this pin to reduce EMI.", 3 VIN (power) "Input Supply Pin. Must be locally bypassed.", 4 ~{SHDN} (in) "Shutdown Pin. Tie to 1.5V or higher to enable device or 0.4V or less to disable device.", 5 VREF (out) "Reference Output Pin. This pin can supply up to 100uA.", 6 RT "Switching Frequency Adjustment Pin. Set switching frequency using a resistor to GND (see Typical Performance Characteristics for values). For SYNC function, choose the resistor to program a frequency 20% slower than the SYNC (See Datasheet)", 7 SYNC (in) "Frequency Synchronization Pin. Tie an external clock signal here. RT resistor should be chosen to program a switching frequency 20% slower than SYNC pulse frequency. Synchronization (power switch turn-on) occurs a fixed (See Datasheet)", 8 SS (in) "Soft-Start Pin. Place a soft-start capacitor here. Leave the pin open if not in use.", 9 PWM (in) "Pulse Width Modulated Input Pin. Signal low turns off channel, disables the main switch and makes the TG pin high. Tie the PWM pin to S\H\D\N\ pin if not used. There is an equivalent 50k resistor from PWM pin to ground (See Datasheet)", 10 CTRL (in) "LED Current Adjustment Pin. Sets voltage across sense resistor between ISP and ISN. Connect directly to VREF for full-scale threshold of 100mV, or use signal values between GND and 1V to modulate LED current. Tie the CTRL (See Datasheet)", 11 VC "gm Error Amplifier Output Pin. Stabilize the loop with an RC network or compensating C.", 12 FB (in) "Voltage Loop Feedback Pin. Works as overvoltage protection for LED drivers. If FB is higher than 1V, the main switch is turned off.", 13 TGEN (in) "Top Gate Enable Input Pin. Tie to 1.5V or higher to enable the PMOS driver function. Tie the TGEN pin to ground if TG function is not used. There is an equivalent 40k resistor from TGEN pin to ground internally.", 14 ISN (in) "Current Sense (-) Pin. The inverting input to the current sense amplifier.", 15 ISP (in) "Current Sense (+) Pin. The noninverting input to the current sense amplifier. Also serves as positive rail for TG pin driver.", 16 TG (out) "Top Gate Driver Output. An inverted PWM signal drives series PMOS device between VISP and (VISP - 7V). An internal 7V clamp protects the VISP PMOS gate. Leave TG unconnected if not used.", 17 EP (power) "Exposed Pad. Solder paddle directly to ground plane."